# Altium footprint library Library.PcbLib: 106 footprints (part 2 of 7)
Each footprint in its own frame and in the unit in brackets; x right, y up, seen from the top. Pads: shape width x height; smd on the part's side, far side on the other; paste and mask are expansions set on the pad; w line width, h text height; cw(c..) or ccw(c..) is an arc to the next point about the centre after c.
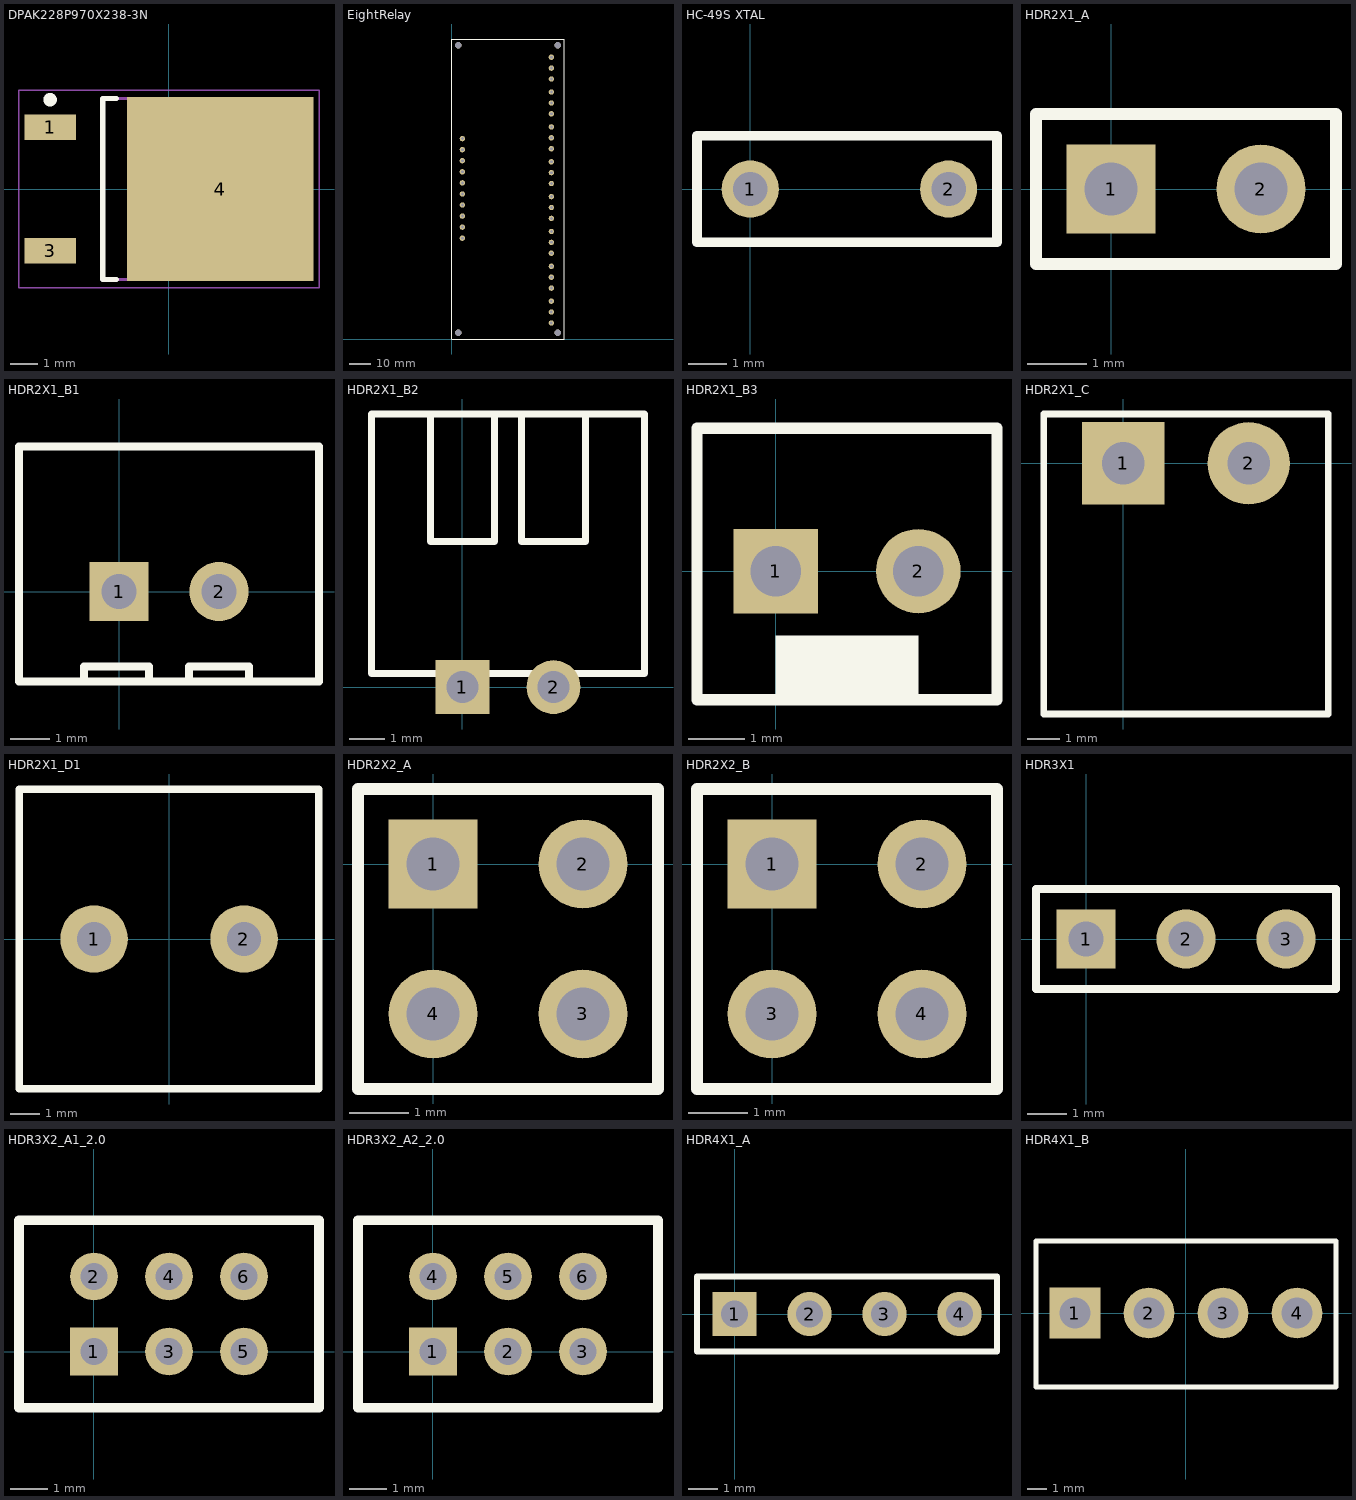
[diagram p1: the footprints below, top view; thin cyan lines are the x and y axes]

## DPAK228P970X238-3N [mm] "D-PAK, 3-Pads, Body 6.20x6.72mm (max), IPC Medium Density"
height 2.38
pads (3):
  rect 1.9x0.95 smd: 1(-4.4,2.28) 3(-4.4,-2.28)
  rect 6.9x6.8 smd: 4(1.9,0)
Top Overlay:
  circle w0.25: c-4.4,3.305 r0.125
  lines w0.2: -1.95,-3.35 -2.45,-3.35 -2.45,3.35 -1.95,3.35
Mechanical 13:
  lines w0.1: -2.45,-3.35 3.75,-3.35 3.75,3.35 -2.45,3.35 -2.45,-3.35
Mechanical 15:
  lines w0.05: -5.55,-3.65 5.55,-3.65 5.55,3.65 -5.55,3.65 -5.55,-3.65
  lines w0.1: -0.5,0 0.5,0 ; 0,-0.5 0,0.5
3D body: height 2.38, standoff 0, extent -2.45,-3.35 3.75,3.35

## EightRelay [mm]
pads (34):
  round 2.5 hole 1.3: 1(46.5,131.5) 2(46.5,126.42) 3(46.5,121.34) 4(4.953,83.189) 5(46.5,115.236) 6(46.5,110.156) 7(46.5,105.076) 8(4.953,78.024) 9(46.5,98.972) 10(46.5,93.892) 11(46.5,88.812) 12(4.953,72.859) 13(46.5,82.708) 14(46.5,77.628) 15(46.5,72.548) 16(4.953,67.695) 17(46.5,66.445) 18(46.5,61.365) 19(46.5,56.285) 20(4.953,62.53) 21(46.5,50.181) 22(46.5,45.101) 23(46.5,40.021) 24(4.953,57.365) 25(46.5,33.917) 26(46.5,28.837) 27(46.5,23.757) 28(4.953,52.201) 29(46.482,17.653) 30(46.482,12.573) 31(46.482,7.493) 32(4.953,47.036) 33(4.953,93.518) 34(4.953,88.353)
via 3,3 diameter 3 hole 3
via 49.5,3 diameter 3 hole 3
via 49.5,137 diameter 3 hole 3
via 3,137 diameter 3 hole 3
Top Overlay:
  lines w0.254: 0,0 0,140 52.5,140 52.5,0 0,0

## HC-49S XTAL [mm] "直插无源晶振"
height 2.54
pads (2):
  round 1.5 hole 0.9: 1(0,0) 2(5.207,0)
Top Overlay:
  lines w0.254: -1.397,-1.397 6.477,-1.397 6.477,1.397 -1.397,1.397 -1.397,-1.397

## HDR2X1_A [mm] "Connector; Header; 2 Position"
height 7.01
pads (2):
  rect 1.5x1.5 hole 0.9: 1(0,0)
  round 1.5 hole 0.9: 2(2.54,0)
Top Overlay:
  lines w0.2: -1.27,-1.27 -1.27,1.27 3.81,1.27 3.81,-1.27 -1.27,-1.27

## HDR2X1_B1 [mm] "Connector; Header; 4 Position"
height 1.6
pads (2):
  rect 1.5x1.5 hole 0.9: 1(0,0)
  round 1.5 hole 0.9: 2(2.54,0)
Top Overlay:
  lines w0.2: -0.889,-2.286 -0.889,-1.905 0.762,-1.905 0.762,-2.286 ; 1.778,-2.286 1.778,-1.905 3.302,-1.905 3.302,-2.286 ; -2.54,-2.286 -2.54,3.683 5.08,3.683 5.08,-2.286 -2.54,-2.286
3D body: height 1.5, standoff 0, extent -2.413,-2.159 5.08,3.556

## HDR2X1_B2 [mm] "Connector; Header; 4 Position"
height 1.6
pads (2):
  rect 1.5x1.5 hole 0.9: 1(0,0)
  round 1.5 hole 0.9: 2(2.54,0)
Top Overlay:
  lines w0.2: -0.889,7.62 -0.889,4.064 0.889,4.064 0.889,7.62 ; 1.651,7.62 1.651,4.064 3.429,4.064 3.429,7.62 ; -2.54,0.381 5.08,0.381 5.08,7.62 -2.54,7.62 -2.54,0.381
3D body: height 1.5, standoff 0, extent -2.54,0.381 5.08,7.62

## HDR2X1_B3 [mm] "Connector; Header; 4 Position"
height 1.6
pads (2):
  rect 1.5x1.5 hole 0.9: 1(0,0)
  round 1.5 hole 0.9: 2(2.54,0)
Top Overlay:
  rectangle: 0,-2.286 2.54,-1.143
  lines w0.2: -1.397,-2.286 3.937,-2.286 3.937,2.54 -1.397,2.54 -1.397,-2.286
3D body: height 1.5, standoff 0, extent -1.397,-2.286 3.937,2.54

## HDR2X1_C [mm] "3.81接插件"
height 7
pads (2):
  rect 2.5x2.5 hole 1.3: 1(0,0)
  round 2.5 hole 1.3: 2(3.81,0)
Top Overlay:
  lines w0.2: -2.413,-7.62 -2.413,1.5 6.223,1.5 6.223,-7.62 -2.413,-7.62
3D body: height 5, standoff 0, extent -2.413,-7.62 6.223,1.397

## HDR2X1_D1 [mil] "5.08mm端子"
height 500
pads (2):
  round 90 hole 45: 1(-100,0) 2(100,0)
Top Overlay:
  lines w10: -200,-200 -200,200 200,200 200,-200 -200,-200

## HDR2X2_A [mm] "Connector; Header; 2 Position"
height 7.01
pads (4):
  rect 1.5x1.5 hole 0.9: 1(0,0)
  round 1.5 hole 0.9: 2(2.54,0) 3(2.54,-2.54) 4(0,-2.54)
Top Overlay:
  lines w0.2: -1.27,-3.81 -1.27,1.27 3.81,1.27 3.81,-3.81 -1.27,-3.81

## HDR2X2_B [mm] "Connector; Header; 2 Position"
height 7.01
pads (4):
  rect 1.5x1.5 hole 0.9: 1(0,0)
  round 1.5 hole 0.9: 2(2.54,0) 3(0,-2.54) 4(2.54,-2.54)
Top Overlay:
  lines w0.2: -1.27,-3.81 -1.27,1.27 3.81,1.27 3.81,-3.81 -1.27,-3.81

## HDR3X1 [mm] "Connector; Header; 3 Position"
height 1.5
pads (3):
  rect 1.5x1.5 hole 0.9: 1(0,0)
  round 1.5 hole 0.9: 2(2.54,0) 3(5.08,0)
Top Overlay:
  lines w0.2: -1.27,-1.27 -1.27,1.27 6.35,1.27 6.35,-1.27 -1.27,-1.27

## HDR3X2_A1_2.0 [mm]
height 8
pads (6):
  rect 1.27x1.27 hole 0.711: 1(0,0)
  round 1.27 hole 0.711: 2(0,2) 3(2,0) 4(2,2) 5(4,0) 6(4,2)
Top Overlay:
  lines w0.254: -2,-1.5 -2,3.5 6,3.5 6,-1.5 -2,-1.5

## HDR3X2_A2_2.0 [mm]
height 8
pads (6):
  rect 1.27x1.27 hole 0.711: 1(0,0)
  round 1.27 hole 0.711: 2(2,0) 3(4,0) 4(0,2) 5(2,2) 6(4,2)
Top Overlay:
  lines w0.254: -2,-1.5 6,-1.5 6,3.5 -2,3.5 -2,-1.5

## HDR4X1_A [mm] "Connector; Header; 4 Position"
height 1.6
pads (4):
  rect 1.5x1.5 hole 0.9: 1(0,0)
  round 1.5 hole 0.9: 2(2.54,0) 3(5.08,0) 4(7.62,0)
Top Overlay:
  lines w0.2: -1.27,-1.27 -1.27,1.27 8.89,1.27 8.89,-1.27 -1.27,-1.27

## HDR4X1_B [mm] "适用于DDS信号发生器接插件,间距3.8mm/149mil"
pads (4):
  rect 2.6x2.6 hole 1.6: 1(-5.7,0)
  round 2.6 hole 1.6: 2(-1.9,0) 3(1.9,0) 4(5.7,0)
Top Overlay:
  lines w0.254: -7.7,-3.8 7.7,-3.8 7.7,3.7 -7.7,3.7 -7.7,-3.8